# EAGLE library part M-QFN28_B (library maholli)
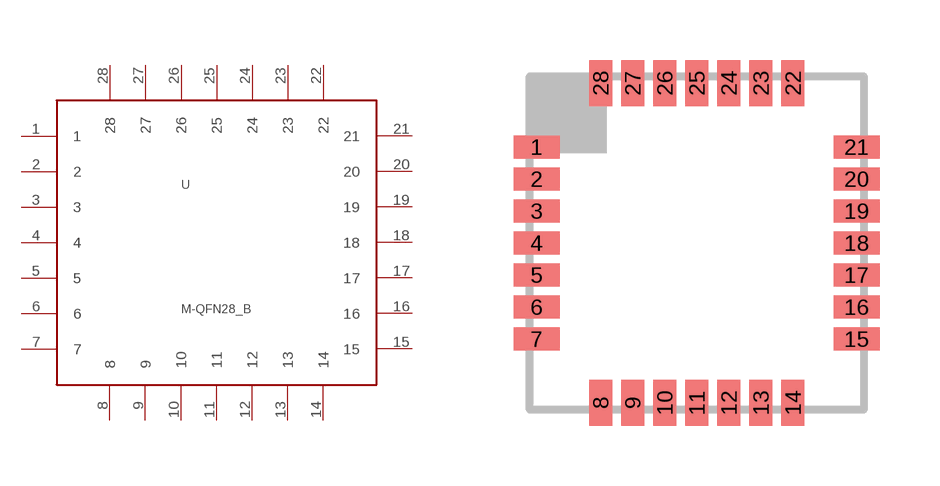
[diagram p23: symbol with the pads of HVQFN_B; footprint HVQFN_B]

Designator prefix U

## M-QFN28_B  [HVQFN_B]
1  1
2  2
3  3
4  4
5  5
6  6
7  7
8  8
9  9
10  10
11  11
12  12
13  13
14  14
15  15
16  16
17  17
18  18
19  19
20  20
21  21
22  22
23  23
24  24
25  25
26  26
27  27
28  28

## Footprint HVQFN_B (pad centres in mm)
smd 1.16 x 0.575: 1 -4,2.404; 2 -4,1.603; 3 -4,0.801; 4 -4,0; 5 -4,-0.801; 6 -4,-1.603; 7 -4,-2.404; 15 4,-2.404; 16 4,-1.603; 17 4,-0.801; 18 4,0; 19 4,0.801; 20 4,1.603; 21 4,2.404
smd 0.575 x 1.16: 8 -2.404,-4; 9 -1.603,-4; 10 -0.801,-4; 11 0,-4; 12 0.801,-4; 13 1.603,-4; 14 2.404,-4; 22 2.404,4; 23 1.603,4; 24 0.801,4; 25 0,4; 26 -0.801,4; 27 -1.603,4; 28 -2.404,4